# Altium schematic symbol library Connectors Molex.SchLib: 121 symbols (part 1 of 2)
Pins are listed as number, name and electrical type; pins without a type are passive.

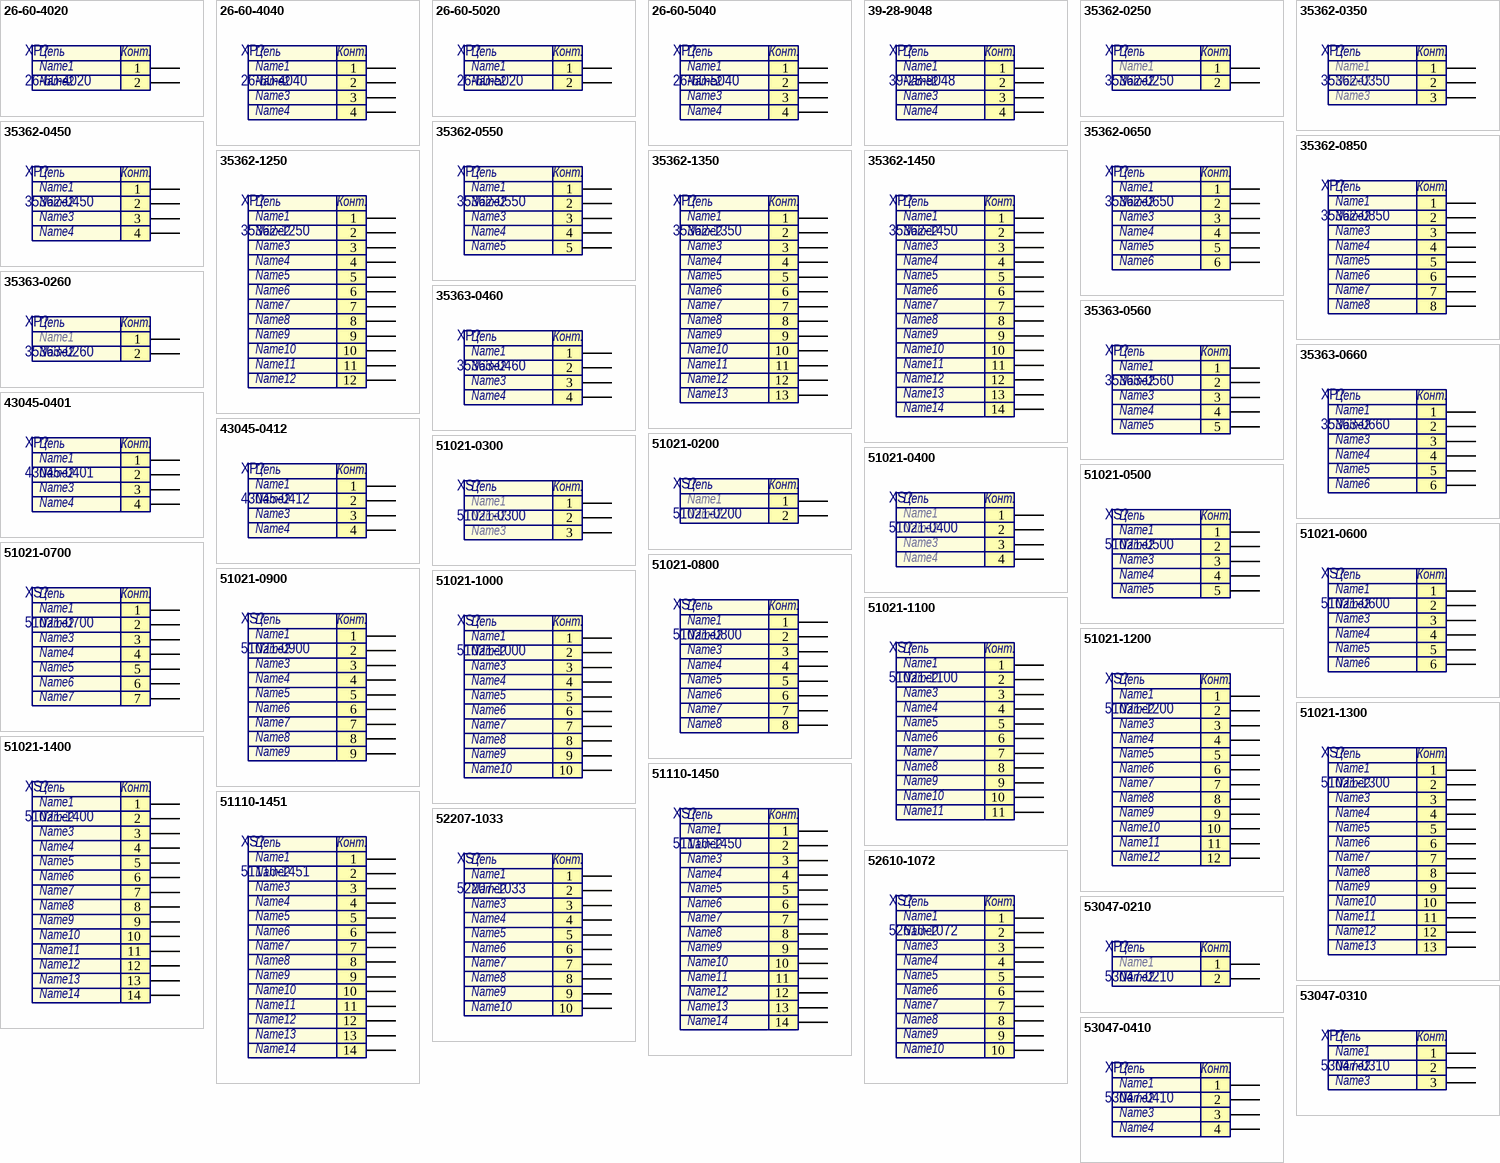
[diagram p0: symbols 26-60-4020 to 53047-0410]

## 26-60-4020
designator XP?  Net_name1: Name1  Net_name2: Name2
CONN HEADER 4POS .156 VERT TIN; Manufacturer: Molex Inc; Library: Connectors Molex; Group: 9375; RegulationProcent: 10; TypeName: Вилка; Distributor: Digi-Key; DistributorPartNumber: WM4620-ND; LatestRevisionDate: 17.01.2018; ManufacturerPartNumber: 26-60-4020; Published: 17.01.2018; Publisher: Stanchik A; Package: *; Code_IPC: *; Code_JEDEC: *
footprint 26-60-4020 (KK® 41791)
pins: 1, 2
text: Цепь; Конт.

## 26-60-4040
designator XP?  Net_name1: Name1  Net_name2: Name2  Net_name3: Name3  Net_name4: Name4
CONN HEADER 4POS .156 VERT TIN; Manufacturer: Molex Inc; Library: Connectors Molex; Group: 9375; RegulationProcent: 10; TypeName: Вилка; Distributor: Digi-Key; DistributorPartNumber: WM4622-ND; LatestRevisionDate: 06.06.2017; ManufacturerPartNumber: 26-60-4040; Published: 06.06.2017; Publisher: Stanchik A; Package: *; Code_IPC: *; Code_JEDEC: *
footprint 26-60-4040 (KK® 41791)
pins: 1, 2, 3, 4
text: Цепь; Конт.

## 26-60-5020
designator XP?  Net_name1: Name1  Net_name2: Name2
CONN HEADER 2POS .156 R/A TIN; Manufacturer: Molex Inc; Library: Connectors Molex; Group: 9375; RegulationProcent: 10; TypeName: Вилка; Distributor: Digi-Key; DistributorPartNumber: WM4640-ND; LatestRevisionDate: 26.02.2018; ManufacturerPartNumber: 26-60-5020; Published: 26.02.2018; Publisher: Stanchik A; Package: *; Code_IPC: *; Code_JEDEC: *
footprint 26-60-5020 (KK® 41792)
pins: 1, 2
text: Цепь; Конт.

## 26-60-5040
designator XP?  Net_name1: Name1  Net_name2: Name2  Net_name3: Name3  Net_name4: Name4
CONN HEADER 4POS .156 R/A TIN; Manufacturer: Molex Inc; Library: Connectors Molex; Group: 9375; RegulationProcent: 10; TypeName: Вилка; Distributor: Digi-Key; DistributorPartNumber: WM4642-ND; LatestRevisionDate: 18.09.2017; ManufacturerPartNumber: 26-60-5040; Published: 18.09.2017; Publisher: Stanchik A; Package: *; Code_IPC: *; Code_JEDEC: *
footprint 26-60-5040 (KK® 41792)
pins: 1, 2, 3, 4
text: Цепь; Конт.

## 39-28-9048
designator XP?  Net_name1: Name1  Net_name2: Name2  Net_name3: Name3  Net_name4: Name4
4 Positions Header, Shrouded Connector 0.165" (4.20mm) Through Hole Gold; Manufacturer: Molex Inc; Library: Connectors Molex; Group: 9375; RegulationProcent: 10; TypeName: Вилка; Distributor: Digi-Key; DistributorPartNumber: WM3833-ND; LatestRevisionDate: 28.04.2016; ManufacturerPartNumber: 39-28-9048; Published: 28.04.2016; Publisher: Stanchik A; Package: *; Code_IPC: *; Code_JEDEC: *
footprint 39-28-9048 (Mini-Fit® Jr™ 5566  For 1.78mm max thick PCB)
pins: 1, 2, 3, 4
text: Цепь; Конт.

## 35362-0250
designator XP?  Net_name1: Name1  Net_name2: Name2
CONN HEADER 2POS 2MM VERT TIN; Manufacturer: Molex Inc; Library: Connectors Molex; Group: 9375; RegulationProcent: 10; TypeName: Вилка; Distributor: Digi-Key; DistributorPartNumber: WM18920-ND; LatestRevisionDate: 08.05.2014; ManufacturerPartNumber: 35362-0250; Published: 08.05.2014; Publisher: Stanchik A; Package: *; Code_IPC: *; Code_JEDEC: *
footprint 35362-0250 (Sherlock™ 35362)
pins: 1, 2
text: Цепь; Конт.

## 35362-0350
designator XP?  Net_name1: Name1  Net_name2: Name2  Net_name3: Name3
CONN HEADER 3POS 2MM VERT TIN; Manufacturer: Molex Inc; Library: Connectors Molex; Group: 9375; RegulationProcent: 10; TypeName: Вилка; Distributor: Digi-Key; DistributorPartNumber: WM18921-ND; LatestRevisionDate: 26.02.2016; ManufacturerPartNumber: 35362-0350; Published: 26.02.2016; Publisher: Stanchik A; Package: *; Code_IPC: *; Code_JEDEC: *
footprint 35362-0350 (Sherlock™ 35362)
pins: 1, 2, 3
text: Цепь; Конт.

## 35362-0450
designator XP?  Net_name1: Name1  Net_name2: Name2  Net_name3: Name3  Net_name4: Name4
CONN HEADER 4POS 2MM VERT TIN; Manufacturer: Molex Inc; Library: Connectors Molex; Group: 9375; RegulationProcent: 10; TypeName: Вилка; Distributor: Digi-Key; DistributorPartNumber: WM18922-ND; LatestRevisionDate: 14.03.2016; ManufacturerPartNumber: 35362-0450; Published: 14.03.2016; Publisher: Stanchik A; Package: *; Code_IPC: *; Code_JEDEC: *
footprint 35362-0450 (Sherlock™ 35362)
pins: 1, 2, 3, 4
text: Цепь; Конт.

## 35362-0550
designator XP?  Net_name1: Name1  Net_name2: Name2  Net_name3: Name3  Net_name4: Name4  Net_name5: Name5
CONN HEADER 5POS 2MM VERT TIN; Manufacturer: Molex Inc; Library: Connectors Molex; Group: 9375; RegulationProcent: 10; TypeName: Вилка; Distributor: Digi-Key; DistributorPartNumber: WM18923-ND; LatestRevisionDate: 28.09.2016; ManufacturerPartNumber: 35362-0550; Published: 28.09.2016; Publisher: Stanchik A; Package: *; Code_IPC: *; Code_JEDEC: *
footprint 35362-0550 (Sherlock™ 35362)
pins: 1, 2, 3, 4, 5
text: Цепь; Конт.

## 35362-0650
designator XP?  Net_name1: Name1  Net_name2: Name2  Net_name3: Name3  Net_name4: Name4  Net_name5: Name5  Net_name6: Name6
CONN HEADER 6POS 2MM VERT TIN; Manufacturer: Molex Inc; Library: Connectors Molex; Group: 9375; RegulationProcent: 10; TypeName: Вилка; Distributor: Digi-Key; DistributorPartNumber: WM18924-ND; LatestRevisionDate: 26.02.2016; ManufacturerPartNumber: 35362-0650; Published: 26.02.2016; Publisher: Stanchik A; Package: *; Code_IPC: *; Code_JEDEC: *
footprint 35362-0650 (Sherlock™ 35362)
pins: 1, 2, 3, 4, 5, 6
text: Цепь; Конт.

## 35362-0850
designator XP?  Net_name1: Name1  Net_name2: Name2  Net_name3: Name3  Net_name4: Name4  Net_name5: Name5  Net_name6: Name6  Net_name7: Name7  Net_name8: Name8
CONN HEADER 8POS 2MM VERT TIN; Manufacturer: Molex Inc; Library: Connectors Molex; Group: 9375; RegulationProcent: 10; TypeName: Вилка; Distributor: Digi-Key; DistributorPartNumber: WM18926-ND; LatestRevisionDate: 14.03.2016; ManufacturerPartNumber: 35362-0850; Published: 14.03.2016; Publisher: Stanchik A; Package: *; Code_IPC: *; Code_JEDEC: *
footprint 35362-0850 (Sherlock™ 35362)
pins: 1, 2, 3, 4, 5, 6, 7, 8
text: Цепь; Конт.

## 35362-1250
designator XP?  Net_name1: Name1  Net_name2: Name2  Net_name3: Name3  Net_name4: Name4  Net_name5: Name5  Net_name6: Name6  Net_name7: Name7  Net_name8: Name8  Net_name9: Name9  Net_name10: Name10  Net_name11: Name11  Net_name12: Name12
CONN HEADER 12POS 2MM VERT TIN; Manufacturer: Molex Inc; Library: Connectors Molex; Group: 9375; RegulationProcent: 10; TypeName: Вилка; Distributor: Digi-Key; DistributorPartNumber: WM18930-ND; LatestRevisionDate: 28.09.2016; ManufacturerPartNumber: 35362-1250; Published: 28.09.2016; Publisher: Stanchik A; Package: *; Code_IPC: *; Code_JEDEC: *
footprint 35362-1250 (Sherlock™ 35362)
pins: 1, 2, 3, 4, 5, 6, 7, 8, 9, 10, 11, 12
text: Цепь; Конт.

## 35362-1350
designator XP?  Net_name1: Name1  Net_name2: Name2  Net_name3: Name3  Net_name4: Name4  Net_name5: Name5  Net_name6: Name6  Net_name7: Name7  Net_name8: Name8  Net_name9: Name9  Net_name10: Name10  Net_name11: Name11  Net_name12: Name12  Net_name13: Name13
CONN HEADER 13POS 2MM VERT TIN; Manufacturer: Molex Inc; Library: Connectors Molex; Group: 9375; RegulationProcent: 10; TypeName: Вилка; Distributor: Digi-Key; DistributorPartNumber: WM9829-ND; LatestRevisionDate: 28.09.2016; ManufacturerPartNumber: 35362-1350; Published: 28.09.2016; Publisher: Stanchik A; Package: *; Code_IPC: *; Code_JEDEC: *
footprint 35362-1350 (Sherlock™ 35362)
pins: 1, 2, 3, 4, 5, 6, 7, 8, 9, 10, 11, 12, 13
text: Цепь; Конт.

## 35362-1450
designator XP?  Net_name1: Name1  Net_name2: Name2  Net_name3: Name3  Net_name4: Name4  Net_name5: Name5  Net_name6: Name6  Net_name7: Name7  Net_name8: Name8  Net_name9: Name9  Net_name10: Name10  Net_name11: Name11  Net_name12: Name12  Net_name13: Name13  Net_name14: Name14
CONN HEADER 14POS 2MM VERT TIN; Manufacturer: Molex Inc; Library: Connectors Molex; Group: 9375; RegulationProcent: 10; TypeName: Вилка; Distributor: Digi-Key; DistributorPartNumber: WM12976-ND; LatestRevisionDate: 28.09.2016; ManufacturerPartNumber: 35362-1450; Published: 28.09.2016; Publisher: Stanchik A; Package: *; Code_IPC: *; Code_JEDEC: *
footprint 35362-1450 (Sherlock™ 35362)
pins: 1, 2, 3, 4, 5, 6, 7, 8, 9, 10, 11, 12, 13, 14
text: Цепь; Конт.

## 35363-0260
designator XP?  Net_name1: Name1  Net_name2: Name2
CONN HEADER 2POS 2MM R/A TIN; Manufacturer: Molex Inc; Library: Connectors Molex; Group: 9375; RegulationProcent: 10; TypeName: Вилка; Distributor: Digi-Key; DistributorPartNumber: WM18931-ND; LatestRevisionDate: 16.02.2016; ManufacturerPartNumber: 35363-0260; Published: 16.02.2016; Publisher: Stanchik A; Package: *; Code_IPC: *; Code_JEDEC: *
footprint 35363-0260 (Sherlock™ 35363)
pins: 1, 2
text: Цепь; Конт.

## 35363-0460
designator XP?  Net_name1: Name1  Net_name2: Name2  Net_name3: Name3  Net_name4: Name4
CONN HEADER 4POS 2MM R/A TIN; Manufacturer: Molex Inc; Library: Connectors Molex; Group: 9375; RegulationProcent: 10; TypeName: Вилка; Distributor: Digi-Key; DistributorPartNumber: WM18933-ND; LatestRevisionDate: 30.03.2016; ManufacturerPartNumber: 35363-0460; Published: 30.03.2016; Publisher: Stanchik A; Package: *; Code_IPC: *; Code_JEDEC: *
footprint 35363-0460 (Sherlock™ 35363)
pins: 1, 2, 3, 4
text: Цепь; Конт.

## 35363-0560
designator XP?  Net_name1: Name1  Net_name2: Name2  Net_name3: Name3  Net_name4: Name4  Net_name5: Name5
CONN HEADER 5POS 2MM R/A TIN; Manufacturer: Molex Inc; Library: Connectors Molex; Group: 9375; RegulationProcent: 10; TypeName: Вилка; Distributor: Digi-Key; DistributorPartNumber: WM18934-ND; LatestRevisionDate: 14.07.2017; ManufacturerPartNumber: 35363-0560; Published: 14.07.2017; Publisher: Stanchik A; Package: *; Code_IPC: *; Code_JEDEC: *
footprint 35363-0560 (Sherlock™ 35363)
pins: 1, 2, 3, 4, 5
text: Цепь; Конт.

## 35363-0660
designator XP?  Net_name1: Name1  Net_name2: Name2  Net_name3: Name3  Net_name4: Name4  Net_name5: Name5  Net_name6: Name6
CONN HEADER 6POS 2MM R/A TIN; Manufacturer: Molex Inc; Library: Connectors Molex; Group: 9375; RegulationProcent: 10; TypeName: Вилка; Distributor: Digi-Key; DistributorPartNumber: WM18935-ND; LatestRevisionDate: 30.03.2016; ManufacturerPartNumber: 35363-0660; Published: 30.03.2016; Publisher: Stanchik A; Package: *; Code_IPC: *; Code_JEDEC: *
footprint 35363-0660 (Sherlock™ 35363)
pins: 1, 2, 3, 4, 5, 6
text: Цепь; Конт.

## 43045-0401
designator XP?  Net_name1: Name1  Net_name2: Name2  Net_name3: Name3  Net_name4: Name4
HEADER R/A 4POS DUAL GOLD T/H; Manufacturer: Molex Inc; Library: Connectors Molex; Group: 9375; RegulationProcent: 10; TypeName: Вилка; Distributor: Digi-Key; DistributorPartNumber: WM3248-ND; LatestRevisionDate: 15.03.2016; ManufacturerPartNumber: 43045-0401; Published: 15.03.2016; Publisher: Stanchik A; Package: *; Code_IPC: *; Code_JEDEC: *
footprint 43045-0401 (Micro-Fit 3.0™ 43045)
pins: 1, 2, 3, 4
text: Цепь; Конт.

## 43045-0412
designator XP?  Net_name1: Name1  Net_name2: Name2  Net_name3: Name3  Net_name4: Name4
CONN HEADER 4POS 3MM VERT TIN; Manufacturer: Molex Inc; Library: Connectors Molex; Group: 9375; RegulationProcent: 10; TypeName: Вилка; Distributor: Digi-Key; DistributorPartNumber: WM1790-ND; LatestRevisionDate: 22.04.2016; ManufacturerPartNumber: 43045-0412; Published: 22.04.2016; Publisher: Stanchik A; Package: *; Code_IPC: *; Code_JEDEC: *
footprint 43045-0412 (Micro-Fit 3.0™ 43045)
pins: 1, 2, 3, 4
text: Цепь; Конт.

## 51021-0200
designator XS?  Net_name1: Name1  Net_name2: Name2
CONN HOUSING 2POS 1.25MM NATURAL; Manufacturer: Molex Inc; Library: Connectors Molex; Group: 9380; RegulationProcent: 10; TypeName: Розетка; Distributor: Digi-Key; DistributorPartNumber: WM1720-ND; LatestRevisionDate: 22.12.2014; ManufacturerPartNumber: 51021-0200; Published: 22.12.2014; Publisher: Konan D; Package: *; Code_IPC: *; Code_JEDEC: *
3D model 510210200 (PCB3D Model)
pins: 1, 2
text: Цепь; Конт.

## 51021-0300
designator XS?  Net_name1: Name1  Net_name2: Name2  Net_name3: Name3
CONN HOUSING 3POS 1.25MM NATURAL; Manufacturer: Molex Inc; Library: Connectors Molex; Group: 9380; RegulationProcent: 10; TypeName: Розетка; Distributor: Digi-Key; DistributorPartNumber: WM1721-ND; LatestRevisionDate: 05.05.13; ManufacturerPartNumber: 51021-0300; Published: 05.06.13; Publisher: Auchinik D; Package: *; Code_IPC: *; Code_JEDEC: *
3D model 510210300 (PCB3D Model)
pins: 1, 2, 3
text: Цепь; Конт.

## 51021-0400
designator XS?  Net_name1: Name1  Net_name2: Name2  Net_name3: Name3  Net_name4: Name4
CONN HOUSING 4POS 1.25MM NATURAL; Manufacturer: Molex Inc; Library: Connectors Molex; Group: 9380; RegulationProcent: 10; TypeName: Розетка; Distributor: Digi-Key; DistributorPartNumber: WM1722-ND; LatestRevisionDate: 05.05.13; ManufacturerPartNumber: 51021-0400; Published: 05.06.13; Publisher: Auchinik D; Package: *; Code_IPC: *; Code_JEDEC: *
3D model 510210400 (PCB3D Model)
pins: 1, 2, 3, 4
text: Цепь; Конт.

## 51021-0500
designator XS?  Net_name1: Name1  Net_name2: Name2  Net_name3: Name3  Net_name4: Name4  Net_name5: Name5
CONN HOUSING 5POS 1.25MM NATURAL; Manufacturer: Molex Inc; Library: Connectors Molex; Group: 9380; RegulationProcent: 10; TypeName: Розетка; Distributor: Digi-Key; DistributorPartNumber: WM1723-ND; LatestRevisionDate: 05.05.13; ManufacturerPartNumber: 51021-0500; Published: 05.06.13; Publisher: Auchinik D; Package: *; Code_IPC: *; Code_JEDEC: *
3D model 510210500 (PCB3D Model)
pins: 1, 2, 3, 4, 5
text: Цепь; Конт.

## 51021-0600
designator XS?  Net_name1: Name1  Net_name2: Name2  Net_name3: Name3  Net_name4: Name4  Net_name5: Name5  Net_name6: Name6
CONN HOUSING 6POS 1.25MM NATURAL; Manufacturer: Molex Inc; Library: Connectors Molex; Group: 9380; RegulationProcent: 10; TypeName: Розетка; Distributor: Digi-Key; DistributorPartNumber: WM1724-ND; LatestRevisionDate: 05.05.13; ManufacturerPartNumber: 51021-0600; Published: 05.06.13; Publisher: Auchinik D; Package: *; Code_IPC: *; Code_JEDEC: *
3D model 510210600 (PCB3D Model)
pins: 1, 2, 3, 4, 5, 6
text: Цепь; Конт.

## 51021-0700
designator XS?  Net_name1: Name1  Net_name2: Name2  Net_name3: Name3  Net_name4: Name4  Net_name5: Name5  Net_name6: Name6  Net_name7: Name7
CONN HOUSING 7POS 1.25MM NATURAL; Manufacturer: Molex Inc; Library: Connectors Molex; Group: 9380; RegulationProcent: 10; TypeName: Розетка; Distributor: Digi-Key; DistributorPartNumber: WM1725-ND; LatestRevisionDate: 05.05.13; ManufacturerPartNumber: 51021-0700; Published: 05.06.13; Publisher: Auchinik D; Package: *; Code_IPC: *; Code_JEDEC: *
3D model 510210700 (PCB3D Model)
pins: 1, 2, 3, 4, 5, 6, 7
text: Цепь; Конт.

## 51021-0800
designator XS?  Net_name1: Name1  Net_name2: Name2  Net_name3: Name3  Net_name4: Name4  Net_name5: Name5  Net_name6: Name6  Net_name7: Name7  Net_name8: Name8
CONN HOUSING 8POS 1.25MM NATURAL; Manufacturer: Molex Inc; Library: Connectors Molex; Group: 9380; RegulationProcent: 10; TypeName: Розетка; Distributor: Digi-Key; DistributorPartNumber: WM1726-ND; LatestRevisionDate: 05.05.13; ManufacturerPartNumber: 51021-0800; Published: 05.06.13; Publisher: Auchinik D; Package: *; Code_IPC: *; Code_JEDEC: *
3D model 510210800 (PCB3D Model)
pins: 1, 2, 3, 4, 5, 6, 7, 8
text: Цепь; Конт.

## 51021-0900
designator XS?  Net_name1: Name1  Net_name2: Name2  Net_name3: Name3  Net_name4: Name4  Net_name5: Name5  Net_name6: Name6  Net_name7: Name7  Net_name8: Name8  Net_name9: Name9
CONN HOUSING 9POS 1.25MM NATURAL; Manufacturer: Molex Inc; Library: Connectors Molex; Group: 9380; RegulationProcent: 10; TypeName: Розетка; Distributor: Digi-Key; DistributorPartNumber: WM1727-ND; LatestRevisionDate: 05.05.13; ManufacturerPartNumber: 51021-0900; Published: 05.06.13; Publisher: Auchinik D; Package: *; Code_IPC: *; Code_JEDEC: *
3D model 510210900 (PCB3D Model)
pins: 1, 2, 3, 4, 5, 6, 7, 8, 9
text: Цепь; Конт.

## 51021-1000
designator XS?  Net_name1: Name1  Net_name2: Name2  Net_name3: Name3  Net_name4: Name4  Net_name5: Name5  Net_name6: Name6  Net_name7: Name7  Net_name8: Name8  Net_name9: Name9  Net_name10: Name10
CONN HOUSING 10POS 1.25MM; Manufacturer: Molex Inc; Library: Connectors Molex; Group: 9380; RegulationProcent: 10; TypeName: Розетка; Distributor: Digi-Key; DistributorPartNumber: WM1728-ND; LatestRevisionDate: 05.05.13; ManufacturerPartNumber: 51021-1000; Published: 05.06.13; Publisher: Auchinik D; Package: *; Code_IPC: *; Code_JEDEC: *
3D model 510211000 (PCB3D Model)
pins: 1, 2, 3, 4, 5, 6, 7, 8, 9, 10
text: Цепь; Конт.

## 51021-1100
designator XS?  Net_name1: Name1  Net_name2: Name2  Net_name3: Name3  Net_name4: Name4  Net_name5: Name5  Net_name6: Name6  Net_name7: Name7  Net_name8: Name8  Net_name9: Name9  Net_name10: Name10  Net_name11: Name11
CONN HOUSING 11POS 1.25MM; Manufacturer: Molex Inc; Library: Connectors Molex; Group: 9380; RegulationProcent: 10; TypeName: Розетка; Distributor: Digi-Key; DistributorPartNumber: WM1729-ND; LatestRevisionDate: 20.12.2014; ManufacturerPartNumber: 51021-1100; Published: 20.12.2014; Publisher: Konan D; Package: *; Code_IPC: *; Code_JEDEC: *
3D model 510211100 (PCB3D Model)
pins: 1, 2, 3, 4, 5, 6, 7, 8, 9, 10, 11
text: Цепь; Конт.

## 51021-1200
designator XS?  Net_name1: Name1  Net_name2: Name2  Net_name3: Name3  Net_name4: Name4  Net_name5: Name5  Net_name6: Name6  Net_name7: Name7  Net_name8: Name8  Net_name9: Name9  Net_name10: Name10  Net_name11: Name11  Net_name12: Name12
CONN HOUSING 12POS 1.25MM; Manufacturer: Molex Inc; Library: Connectors Molex; Group: 9380; RegulationProcent: 10; TypeName: Розетка; Distributor: Digi-Key; DistributorPartNumber: WM1730-ND; LatestRevisionDate: 05.05.13; ManufacturerPartNumber: 51021-1200; Published: 05.06.13; Publisher: Auchinik D; Package: *; Code_IPC: *; Code_JEDEC: *
3D model 510211200 (PCB3D Model)
pins: 1, 2, 3, 4, 5, 6, 7, 8, 9, 10, 11, 12
text: Цепь; Конт.

## 51021-1300
designator XS?  Net_name1: Name1  Net_name2: Name2  Net_name3: Name3  Net_name4: Name4  Net_name5: Name5  Net_name6: Name6  Net_name7: Name7  Net_name8: Name8  Net_name9: Name9  Net_name10: Name10  Net_name11: Name11  Net_name12: Name12  Net_name13: Name13
CONN HOUSING 13POS 1.25MM; Manufacturer: Molex Inc; Library: Connectors Molex; Group: 9380; RegulationProcent: 10; TypeName: Розетка; Distributor: Digi-Key; DistributorPartNumber: WM17000-ND; LatestRevisionDate: 20.12.2014; ManufacturerPartNumber: 51021-1300; Published: 20.12.2014; Publisher: Konan D; Package: *; Code_IPC: *; Code_JEDEC: *
3D model 510211300 (PCB3D Model)
pins: 1, 2, 3, 4, 5, 6, 7, 8, 9, 10, 11, 12, 13
text: Цепь; Конт.

## 51021-1400
designator XS?  Net_name1: Name1  Net_name2: Name2  Net_name3: Name3  Net_name4: Name4  Net_name5: Name5  Net_name6: Name6  Net_name7: Name7  Net_name8: Name8  Net_name9: Name9  Net_name10: Name10  Net_name11: Name11  Net_name12: Name12  Net_name13: Name13  Net_name14: Name14
CONN HOUSING 14POS 1.25MM; Manufacturer: Molex Inc; Library: Connectors Molex; Group: 9380; RegulationProcent: 10; TypeName: Розетка; Distributor: Digi-Key; DistributorPartNumber: WM17001-ND; LatestRevisionDate: 05.05.13; ManufacturerPartNumber: 51021-1400; Published: 05.06.13; Publisher: Auchinik D; Package: *; Code_IPC: *; Code_JEDEC: *
3D model 510211400 (PCB3D Model)
pins: 1, 2, 3, 4, 5, 6, 7, 8, 9, 10, 11, 12, 13, 14
text: Цепь; Конт.

## 51110-1450
designator XS?  Net_name1: Name1  Net_name2: Name2  Net_name3: Name3  Net_name4: Name4  Net_name5: Name5  Net_name6: Name6  Net_name7: Name7  Net_name8: Name8  Net_name9: Name9  Net_name10: Name10  Net_name11: Name11  Net_name12: Name12  Net_name13: Name13  Net_name14: Name14
CONN HOUSING 2MM 14POS; Manufacturer: Molex Inc; Library: Connectors Molex; Group: 9380; RegulationProcent: 10; TypeName: Розетка; Distributor: Digi-Key; DistributorPartNumber: WM18035-ND; LatestRevisionDate: 23.02.2015; ManufacturerPartNumber: 51110-1450; Published: 23.02.2015; Publisher: Stanchik A; Package: *; Code_IPC: *; Code_JEDEC: *
3D model 511101450 (PCB3D Model)
pins: 1, 2, 3, 4, 5, 6, 7, 8, 9, 10, 11, 12, 13, 14
text: Цепь; Конт.

## 51110-1451
designator XS?  Net_name1: Name1  Net_name2: Name2  Net_name3: Name3  Net_name4: Name4  Net_name5: Name5  Net_name6: Name6  Net_name7: Name7  Net_name8: Name8  Net_name9: Name9  Net_name10: Name10  Net_name11: Name11  Net_name12: Name12  Net_name13: Name13  Net_name14: Name14
CONN HOUSING 2MM 14POS POLARIZED; Manufacturer: Molex Inc; Library: Connectors Molex; Group: 9380; RegulationProcent: 10; TypeName: Розетка; Distributor: Digi-Key; DistributorPartNumber: WM18047-ND; LatestRevisionDate: 18.11.2015; ManufacturerPartNumber: 51110-1451; Published: 18.11.2015; Publisher: Stanchik A; Package: *; Code_IPC: *; Code_JEDEC: *
3D model 511101451 (PCB3D Model)
pins: 1, 2, 3, 4, 5, 6, 7, 8, 9, 10, 11, 12, 13, 14
text: Цепь; Конт.

## 52207-1033
designator XS?  Net_name1: Name1  Net_name2: Name2  Net_name3: Name3  Net_name4: Name4  Net_name5: Name5  Net_name6: Name6  Net_name7: Name7  Net_name8: Name8  Net_name9: Name9  Net_name10: Name10
CONN FFC FPC TOP 10POS 1MM R/A; Manufacturer: Molex Inc; Library: Connectors Molex; Group: 9380; RegulationProcent: 10; TypeName: Розетка; Distributor: Digi-Key; DistributorPartNumber: WM10942CT-ND; LatestRevisionDate: 28.02.2018; ManufacturerPartNumber: 52207-1033; Published: 28.02.2018; Publisher: Stanchik A; Package: *; Code_IPC: *; Code_JEDEC: *
footprint 52207-1033 (Easy-On™ 52207)
pins: 1, 2, 3, 4, 5, 6, 7, 8, 9, 10
text: Цепь; Конт.

## 52610-1072
designator XS?  Net_name1: Name1  Net_name2: Name2  Net_name3: Name3  Net_name4: Name4  Net_name5: Name5  Net_name6: Name6  Net_name7: Name7  Net_name8: Name8  Net_name9: Name9  Net_name10: Name10
CONN FPC VERT 10POS 1.00MM SMD; Manufacturer: Molex Inc; Library: Connectors Molex; Group: 9380; RegulationProcent: 10; TypeName: Розетка; Distributor: Digi-Key; DistributorPartNumber: WM6762CT-ND; LatestRevisionDate: 26.02.2018; ManufacturerPartNumber: 52610-1072; Published: 26.02.2018; Publisher: Stanchik A; Package: *; Code_IPC: *; Code_JEDEC: *
footprint 52610-1072 (Easy-On™ 52610)
pins: 1, 2, 3, 4, 5, 6, 7, 8, 9, 10
text: Цепь; Конт.

## 53047-0210
designator XP?  Net_name1: Name1  Net_name2: Name2
CONN HEADER 2POS 1.25MM VERT TIN; Manufacturer: Molex Inc; Library: Connectors Molex; Group: 9375; RegulationProcent: 10; TypeName: Вилка; Distributor: Digi-Key; DistributorPartNumber: WM1731-ND; LatestRevisionDate: 26.05.14; ManufacturerPartNumber: 53047-0210; Published: 26.05.14; Publisher: Auchinik D; Package: *; Code_IPC: *; Code_JEDEC: *
footprint 53047-0210 (PicoBlade™ 53047-0210)
pins: 1, 2
text: Цепь; Конт.

## 53047-0310
designator XP?  Net_name1: Name1  Net_name2: Name2  Net_name3: Name3
CONN HEADER 3POS 1.25MM VERT TIN; Manufacturer: Molex Inc; Library: Connectors Molex; Group: 9375; RegulationProcent: 10; TypeName: Вилка; Distributor: Digi-Key; DistributorPartNumber: WM1732-ND; LatestRevisionDate: 09.01.2015; ManufacturerPartNumber: 53047-0310; Published: 09.01.2015; Publisher: Stanchik A; Package: *; Code_IPC: *; Code_JEDEC: *
footprint 53047-0310 (PicoBlade™ 53047-0310)
pins: 1, 2, 3
text: Цепь; Конт.

## 53047-0410
designator XP?  Net_name1: Name1  Net_name2: Name2  Net_name3: Name3  Net_name4: Name4
CONN HEADER 4POS 1.25MM VERT TIN; Manufacturer: Molex Inc; Library: Connectors Molex; Group: 9375; RegulationProcent: 10; TypeName: Вилка; Distributor: Digi-Key; DistributorPartNumber: WM1733-ND; LatestRevisionDate: 05.08.2014; ManufacturerPartNumber: 53047-0410; Published: 05.08.2014; Publisher: Stanchik A; Package: *; Code_IPC: *; Code_JEDEC: *
footprint 53047-0410 (PicoBlade™ 53047-0410)
pins: 1, 2, 3, 4
text: Цепь; Конт.

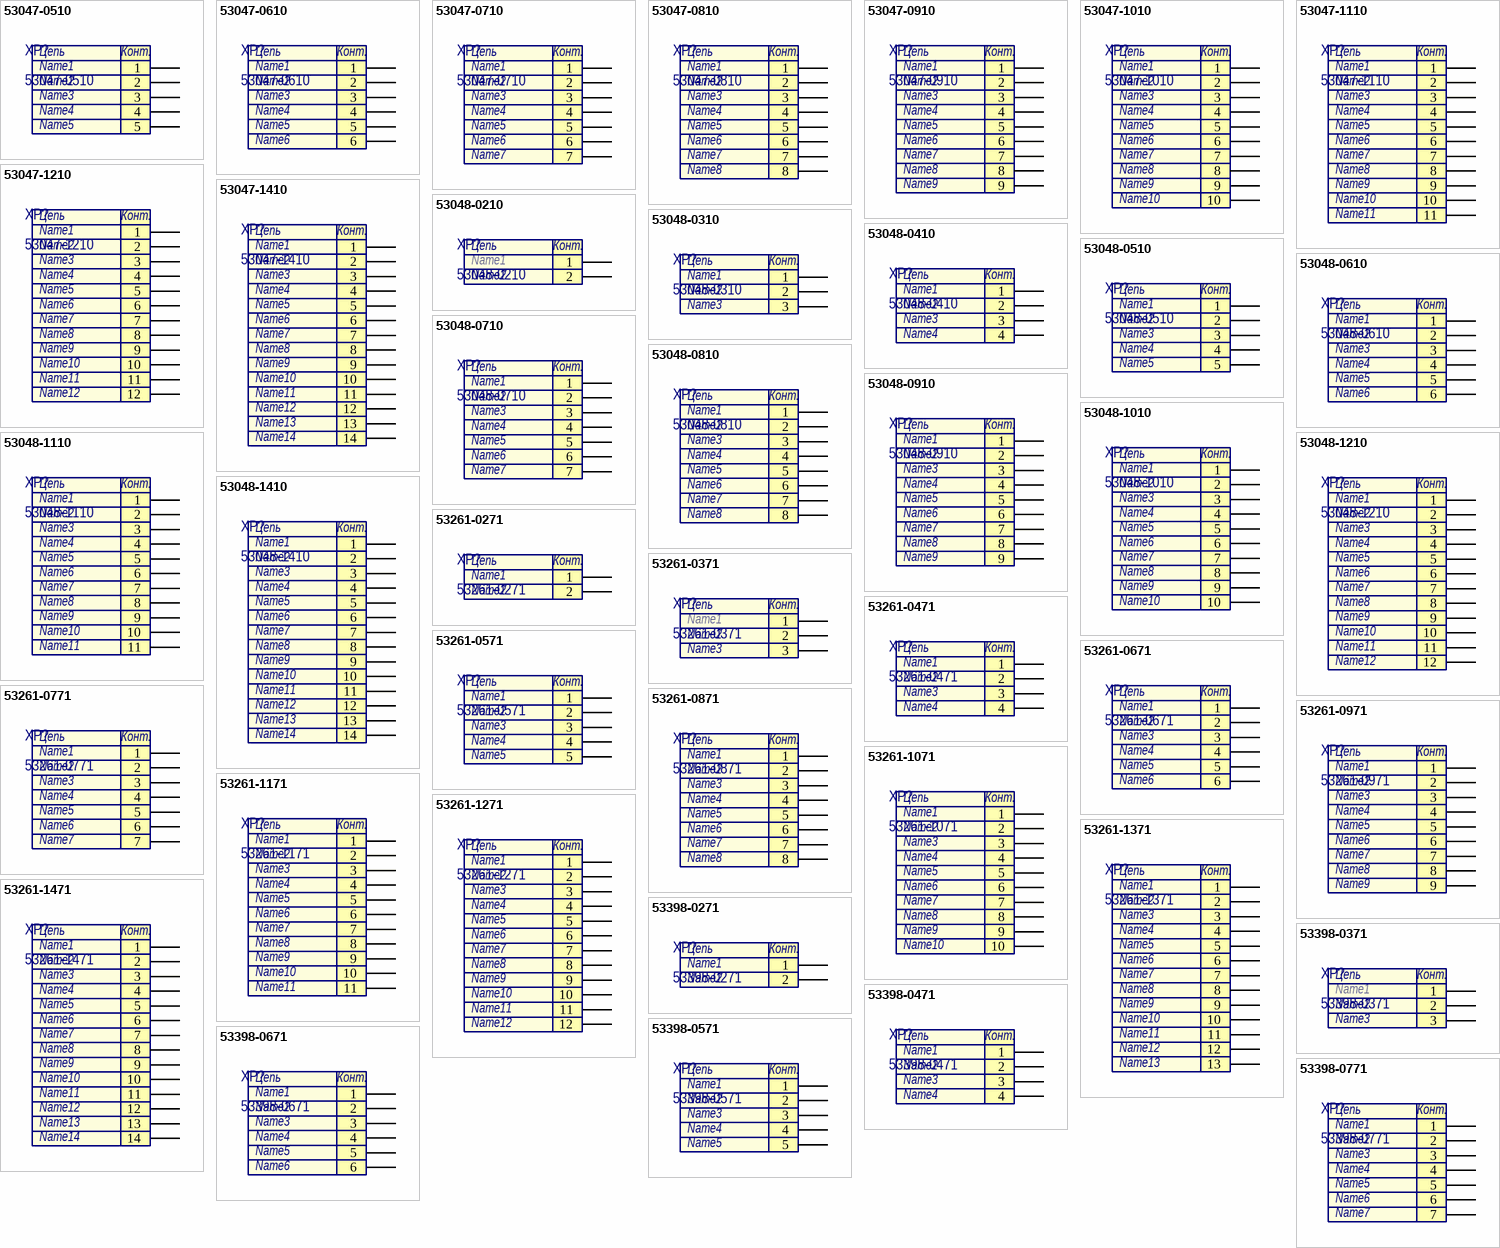
[diagram p1: symbols 53047-0510 to 53398-0771]

## 53047-0510
designator XP?  Net_name1: Name1  Net_name2: Name2  Net_name3: Name3  Net_name4: Name4  Net_name5: Name5
CONN HEADER 5POS 1.25MM VERT TIN; Manufacturer: Molex Inc; Library: Connectors Molex; Group: 9375; RegulationProcent: 10; TypeName: Вилка; Distributor: Digi-Key; DistributorPartNumber: WM1734-ND; LatestRevisionDate: 01.11.13; ManufacturerPartNumber: 53047-0510; Published: 01.11.13; Publisher: Auchinik D; Package: *; Code_IPC: *; Code_JEDEC: *
footprint 53047-0510 (PicoBlade™ 53047-0510)
pins: 1, 2, 3, 4, 5
text: Цепь; Конт.

## 53047-0610
designator XP?  Net_name1: Name1  Net_name2: Name2  Net_name3: Name3  Net_name4: Name4  Net_name5: Name5  Net_name6: Name6
CONN HEADER 6POS 1.25MM VERT TIN; Manufacturer: Molex Inc; Library: Connectors Molex; Group: 9375; RegulationProcent: 10; TypeName: Вилка; Distributor: Digi-Key; DistributorPartNumber: WM1735-ND; LatestRevisionDate: 26.02.2016; ManufacturerPartNumber: 53047-0610; Published: 26.02.2016; Publisher: Stanchik A; Package: *; Code_IPC: *; Code_JEDEC: *
footprint 53047-0610 (PicoBlade™ 53047-0610)
pins: 1, 2, 3, 4, 5, 6
text: Цепь; Конт.

## 53047-0710
designator XP?  Net_name1: Name1  Net_name2: Name2  Net_name3: Name3  Net_name4: Name4  Net_name5: Name5  Net_name6: Name6  Net_name7: Name7
CONN HEADER 7POS 1.25MM VERT TIN; Manufacturer: Molex Inc; Library: Connectors Molex; Group: 9375; RegulationProcent: 10; TypeName: Вилка; Distributor: Digi-Key; DistributorPartNumber: WM1736-ND; LatestRevisionDate: 24.02.2015; ManufacturerPartNumber: 53047-0710; Published: 24.02.2015; Publisher: Stanchik A; Package: *; Code_IPC: *; Code_JEDEC: *
footprint 53047-0710 (PicoBlade™ 53047-0710)
pins: 1, 2, 3, 4, 5, 6, 7
text: Цепь; Конт.

## 53047-0810
designator XP?  Net_name1: Name1  Net_name2: Name2  Net_name3: Name3  Net_name4: Name4  Net_name5: Name5  Net_name6: Name6  Net_name7: Name7  Net_name8: Name8
CONN HEADER 8POS 1.25MM VERT SMD; Manufacturer: Molex Inc; Library: Connectors Molex; Group: 9375; RegulationProcent: 10; TypeName: Вилка; Distributor: Digi-Key; DistributorPartNumber: WM1737-ND; LatestRevisionDate: 05.08.2014; ManufacturerPartNumber: 53047-0810; Published: 05.08.2014; Publisher: Stanchik A; Package: *; Code_IPC: *; Code_JEDEC: *
footprint 53047-0810 (PicoBlade™ 53047-0810)
pins: 1, 2, 3, 4, 5, 6, 7, 8
text: Цепь; Конт.

## 53047-0910
designator XP?  Net_name1: Name1  Net_name2: Name2  Net_name3: Name3  Net_name4: Name4  Net_name5: Name5  Net_name6: Name6  Net_name7: Name7  Net_name8: Name8  Net_name9: Name9
CONN HEADER 9POS 1.25MM VERT TIN; Manufacturer: Molex Inc; Library: Connectors Molex; Group: 9375; RegulationProcent: 10; TypeName: Вилка; Distributor: Digi-Key; DistributorPartNumber: WM1738-ND; LatestRevisionDate: 09.01.2015; ManufacturerPartNumber: 53047-0910; Published: 09.01.2015; Publisher: Stanchik A; Package: *; Code_IPC: *; Code_JEDEC: *
footprint 53047-0910 (PicoBlade™ 53047-0910)
pins: 1, 2, 3, 4, 5, 6, 7, 8, 9
text: Цепь; Конт.

## 53047-1010
designator XP?  Net_name1: Name1  Net_name2: Name2  Net_name3: Name3  Net_name4: Name4  Net_name5: Name5  Net_name6: Name6  Net_name7: Name7  Net_name8: Name8  Net_name9: Name9  Net_name10: Name10
CONN HEADER 10POS 1.25MM STR TIN; Manufacturer: Molex Inc; Library: Connectors Molex; Group: 9375; RegulationProcent: 10; TypeName: Вилка; Distributor: Digi-Key; DistributorPartNumber: WM1739-ND; LatestRevisionDate: 17.02.2015; ManufacturerPartNumber: 53047-1010; Published: 17.02.2015; Publisher: Stanchik A; Package: *; Code_IPC: *; Code_JEDEC: *
footprint 53047-1010 (PicoBlade™ 53047-1010)
pins: 1, 2, 3, 4, 5, 6, 7, 8, 9, 10
text: Цепь; Конт.

## 53047-1110
designator XP?  Net_name1: Name1  Net_name2: Name2  Net_name3: Name3  Net_name4: Name4  Net_name5: Name5  Net_name6: Name6  Net_name7: Name7  Net_name8: Name8  Net_name9: Name9  Net_name10: Name10  Net_name11: Name11
CONN HEADER 11POS 1.25MM STR TIN; Manufacturer: Molex Inc; Library: Connectors Molex; Group: 9375; RegulationProcent: 10; TypeName: Вилка; Distributor: Digi-Key; DistributorPartNumber: WM1740-ND; LatestRevisionDate: 15.07.2015; ManufacturerPartNumber: 53047-1110; Published: 15.07.2015; Publisher: Stanchik A; Package: *; Code_IPC: *; Code_JEDEC: *
footprint 53047-1110 (PicoBlade™ 53047-1110)
pins: 1, 2, 3, 4, 5, 6, 7, 8, 9, 10, 11
text: Цепь; Конт.

## 53047-1210
designator XP?  Net_name1: Name1  Net_name2: Name2  Net_name3: Name3  Net_name4: Name4  Net_name5: Name5  Net_name6: Name6  Net_name7: Name7  Net_name8: Name8  Net_name9: Name9  Net_name10: Name10  Net_name11: Name11  Net_name12: Name12
CONN HEADER 12POS 1.25MM STR TIN; Manufacturer: Molex Inc; Library: Connectors Molex; Group: 9375; RegulationProcent: 10; TypeName: Вилка; Distributor: Digi-Key; DistributorPartNumber: WM1741-ND; LatestRevisionDate: 15.07.2015; ManufacturerPartNumber: 53047-1210; Published: 15.07.2015; Publisher: Stanchik A; Package: *; Code_IPC: *; Code_JEDEC: *
footprint 53047-1210 (PicoBlade™ 53047-1210)
pins: 1, 2, 3, 4, 5, 6, 7, 8, 9, 10, 11, 12
text: Цепь; Конт.

## 53047-1410
designator XP?  Net_name1: Name1  Net_name2: Name2  Net_name3: Name3  Net_name4: Name4  Net_name5: Name5  Net_name6: Name6  Net_name7: Name7  Net_name8: Name8  Net_name9: Name9  Net_name10: Name10  Net_name11: Name11  Net_name12: Name12  Net_name13: Name13  Net_name14: Name14
CONN HEADER 14POS 1.25MM STR TIN; Manufacturer: Molex Inc; Library: Connectors Molex; Group: 9375; RegulationProcent: 10; TypeName: Вилка; Distributor: Digi-Key; DistributorPartNumber: WM17004-ND; LatestRevisionDate: 07.06.2017; ManufacturerPartNumber: 53047-1410; Published: 07.06.2017; Publisher: Stanchik A; Package: *; Code_IPC: *; Code_JEDEC: *
footprint 53047-1410 (PicoBlade™ 53047)
pins: 1, 2, 3, 4, 5, 6, 7, 8, 9, 10, 11, 12, 13, 14
text: Цепь; Конт.

## 53048-0210
designator XP?  Net_name1: Name1  Net_name2: Name2
CONN HEADER 2POS 1.25MM R/A TIN; Manufacturer: Molex Inc; Library: Connectors Molex; Group: 9375; RegulationProcent: 10; TypeName: Вилка; Distributor: Digi-Key; DistributorPartNumber: WM1742-ND; LatestRevisionDate: 16.01.2015; ManufacturerPartNumber: 53048-0210; Published: 16.01.2015; Publisher: Stanchik A; Package: *
footprint 53048-0210 (PicoBlade™ 53048-0210)
pins: 1, 2
text: Цепь; Конт.

## 53048-0310
designator XP?  Net_name1: Name1  Net_name2: Name2  Net_name3: Name3
CONN HEADER 3POS 1.25MM R/A TIN; Manufacturer: Molex Inc; Library: Connectors Molex; Group: 9375; RegulationProcent: 10; TypeName: Вилка; Distributor: Digi-Key; DistributorPartNumber: WM1743-ND; LatestRevisionDate: 30.03.2016; ManufacturerPartNumber: 53048-0310; Published: 30.03.2016; Publisher: Stanchik A; Package: *; Code_IPC: *; Code_JEDEC: *
footprint 53048-0310 (PicoBlade™ 53048-0310)
pins: 1, 2, 3
text: Цепь; Конт.

## 53048-0410
designator XP?  Net_name1: Name1  Net_name2: Name2  Net_name3: Name3  Net_name4: Name4
CONN HEADER 4POS 1.25MM R/A TIN; Manufacturer: Molex Inc; Library: Connectors Molex; Group: 9375; RegulationProcent: 10; TypeName: Вилка; Distributor: Digi-Key; DistributorPartNumber: WM1744-ND; LatestRevisionDate: 18.03.2015; ManufacturerPartNumber: 53048-0410; Published: 18.03.2015; Publisher: Stanchik A; Package: *; Code_IPC: *; Code_JEDEC: *
footprint 53048-0410 (PicoBlade™ 53048-0410)
pins: 1, 2, 3, 4
text: Цепь; Конт.

## 53048-0510
designator XP?  Net_name1: Name1  Net_name2: Name2  Net_name3: Name3  Net_name4: Name4  Net_name5: Name5
CONN HEADER 5POS 1.25MM R/A TIN; Manufacturer: Molex Inc; Library: Connectors Molex; Group: 9375; RegulationProcent: 10; TypeName: Вилка; Distributor: Digi-Key; DistributorPartNumber: WM1745-ND; LatestRevisionDate: 09.03.2015; ManufacturerPartNumber: 53048-0510; Published: 09.03.2015; Publisher: Stanchik A; Package: *; Code_IPC: *; Code_JEDEC: *
footprint 53048-0510 (PicoBlade™ 53048-0510)
pins: 1, 2, 3, 4, 5
text: Цепь; Конт.

## 53048-0610
designator XP?  Net_name1: Name1  Net_name2: Name2  Net_name3: Name3  Net_name4: Name4  Net_name5: Name5  Net_name6: Name6
CONN HEADER 6POS 1.25MM R/A TIN; Manufacturer: Molex Inc; Library: Connectors Molex; Group: 9375; RegulationProcent: 10; TypeName: Вилка; Distributor: Digi-Key; DistributorPartNumber: WM1746-ND; LatestRevisionDate: 02.06.2015; ManufacturerPartNumber: 53048-0610; Published: 05.03.2015; Publisher: Stanchik A; Package: *; Code_IPC: *; Code_JEDEC: *
footprint 53048-0610 (PicoBlade™ 53048-0610)
pins: 1, 2, 3, 4, 5, 6
text: Цепь; Конт.

## 53048-0710
designator XP?  Net_name1: Name1  Net_name2: Name2  Net_name3: Name3  Net_name4: Name4  Net_name5: Name5  Net_name6: Name6  Net_name7: Name7
CONN HEADER 7POS 1.25MM R/A TIN; Manufacturer: Molex Inc; Library: Connectors Molex; Group: 9375; RegulationProcent: 10; TypeName: Вилка; Distributor: Digi-Key; DistributorPartNumber: WM1747-ND; LatestRevisionDate: 05.03.2015; ManufacturerPartNumber: 53048-0710; Published: 05.03.2015; Publisher: Stanchik A; Package: *; Code_IPC: *; Code_JEDEC: *
footprint 53048-0710 (PicoBlade™ 53048-0710)
pins: 1, 2, 3, 4, 5, 6, 7
text: Цепь; Конт.

## 53048-0810
designator XP?  Net_name1: Name1  Net_name2: Name2  Net_name3: Name3  Net_name4: Name4  Net_name5: Name5  Net_name6: Name6  Net_name7: Name7  Net_name8: Name8
CONN HEADER 8POS 1.25MM R/A TIN; Manufacturer: Molex Inc; Library: Connectors Molex; Group: 9375; RegulationProcent: 10; TypeName: Вилка; Distributor: Digi-Key; DistributorPartNumber: WM1748-ND; LatestRevisionDate: 02.07.2015; ManufacturerPartNumber: 53048-0810; Published: 02.07.2015; Publisher: Stanchik A; Package: *; Code_IPC: *; Code_JEDEC: *
footprint 53048-0810 (PicoBlade™ 53048-0810)
pins: 1, 2, 3, 4, 5, 6, 7, 8
text: Цепь; Конт.

## 53048-0910
designator XP?  Net_name1: Name1  Net_name2: Name2  Net_name3: Name3  Net_name4: Name4  Net_name5: Name5  Net_name6: Name6  Net_name7: Name7  Net_name8: Name8  Net_name9: Name9
CONN HEADER 9POS 1.25MM R/A TIN; Manufacturer: Molex Inc; Library: Connectors Molex; Group: 9375; RegulationProcent: 10; TypeName: Вилка; Distributor: Digi-Key; DistributorPartNumber: WM1749-ND; LatestRevisionDate: 15.07.2015; ManufacturerPartNumber: 53048-0910; Published: 15.07.2015; Publisher: Stanchik A; Package: *; Code_IPC: *; Code_JEDEC: *
footprint 53048-0910 (PicoBlade™ 53048-0910)
pins: 1, 2, 3, 4, 5, 6, 7, 8, 9
text: Цепь; Конт.

## 53048-1010
designator XP?  Net_name1: Name1  Net_name2: Name2  Net_name3: Name3  Net_name4: Name4  Net_name5: Name5  Net_name6: Name6  Net_name7: Name7  Net_name8: Name8  Net_name9: Name9  Net_name10: Name10
CONN HEADER 10POS 1.25MM R/A TIN; Manufacturer: Molex Inc; Library: Connectors Molex; Group: 9375; RegulationProcent: 10; TypeName: Вилка; Distributor: Digi-Key; DistributorPartNumber: WM1750-ND; LatestRevisionDate: 09.07.2015; ManufacturerPartNumber: 53048-1010; Published: 09.07.2015; Publisher: Stanchik A; Package: *; Code_IPC: *; Code_JEDEC: *
footprint 53048-1010 (PicoBlade™ 53048-1010)
pins: 1, 2, 3, 4, 5, 6, 7, 8, 9, 10
text: Цепь; Конт.

## 53048-1110
designator XP?  Net_name1: Name1  Net_name2: Name2  Net_name3: Name3  Net_name4: Name4  Net_name5: Name5  Net_name6: Name6  Net_name7: Name7  Net_name8: Name8  Net_name9: Name9  Net_name10: Name10  Net_name11: Name11
CONN HEADER 11POS 1.25MM R/A TIN; Manufacturer: Molex Inc; Library: Connectors Molex; Group: 9375; RegulationProcent: 10; TypeName: Вилка; Distributor: Digi-Key; DistributorPartNumber: WM1751-ND; LatestRevisionDate: 15.07.2015; ManufacturerPartNumber: 53048-1110; Published: 15.07.2015; Publisher: Stanchik A; Package: *; Code_IPC: *; Code_JEDEC: *
footprint 53048-1110 (PicoBlade™ 53048-1110)
pins: 1, 2, 3, 4, 5, 6, 7, 8, 9, 10, 11
text: Цепь; Конт.

## 53048-1210
designator XP?  Net_name1: Name1  Net_name2: Name2  Net_name3: Name3  Net_name4: Name4  Net_name5: Name5  Net_name6: Name6  Net_name7: Name7  Net_name8: Name8  Net_name9: Name9  Net_name10: Name10  Net_name11: Name11  Net_name12: Name12
CONN HEADER 12POS 1.25MM R/A TIN; Manufacturer: Molex Inc; Library: Connectors Molex; Group: 9375; RegulationProcent: 10; TypeName: Вилка; Distributor: Digi-Key; DistributorPartNumber: WM1752-ND; LatestRevisionDate: 15.07.2015; ManufacturerPartNumber: 53048-1210; Published: 15.07.2015; Publisher: Stanchik A; Package: *; Code_IPC: *; Code_JEDEC: *
footprint 53048-1210 (PicoBlade™ 53048-1210)
pins: 1, 2, 3, 4, 5, 6, 7, 8, 9, 10, 11, 12
text: Цепь; Конт.

## 53048-1410
designator XP?  Net_name1: Name1  Net_name2: Name2  Net_name3: Name3  Net_name4: Name4  Net_name5: Name5  Net_name6: Name6  Net_name7: Name7  Net_name8: Name8  Net_name9: Name9  Net_name10: Name10  Net_name11: Name11  Net_name12: Name12  Net_name13: Name13  Net_name14: Name14
CONN HEADER 14POS 1.25MM R/A TIN; Manufacturer: Molex Inc; Library: Connectors Molex; Group: 9375; RegulationProcent: 10; TypeName: Вилка; Distributor: Digi-Key; DistributorPartNumber: WM17007-ND; LatestRevisionDate: 07.06.2017; ManufacturerPartNumber: 53048-1410; Published: 07.06.2017; Publisher: Stanchik A; Package: *; Code_IPC: *; Code_JEDEC: *
footprint 53048-1410 (PicoBlade™ 53048)
pins: 1, 2, 3, 4, 5, 6, 7, 8, 9, 10, 11, 12, 13, 14
text: Цепь; Конт.

## 53261-0271
designator XP?  Net_name1: Name1  Net_name2: Name2
CONN HEADER 2POS 1.25MM R/A SMD; Manufacturer: Molex Inc; Library: Connectors Molex; Group: 9375; RegulationProcent: 10; TypeName: Вилка; Distributor: DigiKey; DistributorPartNumber: WM7620CT-ND; LatestRevisionDate: 23.02.2015; ManufacturerPartNumber: 53261-0271; Published: 23.02.2015; Publisher: Stanchik A; Package: *; Code_IPC: *; Code_JEDEC: *
footprint 53261-0271 (PicoBlade™ 53261-0271)
pins: 1, 2
text: Цепь; Конт.

## 53261-0371
designator XP?  Net_name1: Name1  Net_name2: Name2  Net_name3: Name3
CONN HEADER 3POS 1.25MM R/A SMD; Manufacturer: Molex Inc; Library: Connectors Molex; Group: 9375; RegulationProcent: 10; TypeName: Вилка; Distributor: Digi-Key; DistributorPartNumber: WM7621CT-ND; LatestRevisionDate: 23.02.2015; ManufacturerPartNumber: 53261-0371; Published: 23.02.2015; Publisher: Stanchik A; Package: *; Code_IPC: *; Code_JEDEC: *
footprint 53261-0371 (PicoBlade™ 553261-0371)
pins: 1, 2, 3
text: Цепь; Конт.

## 53261-0471
designator XP?  Net_name1: Name1  Net_name2: Name2  Net_name3: Name3  Net_name4: Name4
CONN HEADER 4POS 1.25MM R/A SMD; Manufacturer: Molex Inc; Library: Connectors Molex; Group: 9375; RegulationProcent: 10; TypeName: Вилка; Distributor: Digi-Key; DistributorPartNumber: WM7622CT-ND; LatestRevisionDate: 23.02.2015; ManufacturerPartNumber: 53261-0471; Published: 23.02.2015; Publisher: Stanchik A; Package: *; Code_IPC: *; Code_JEDEC: *
footprint 53261-0471 (PicoBlade™ 53261-0471)
pins: 1, 2, 3, 4
text: Цепь; Конт.

## 53261-0571
designator XP?  Net_name1: Name1  Net_name2: Name2  Net_name3: Name3  Net_name4: Name4  Net_name5: Name5
CONN HEADER 5POS 1.25MM R/A SMD; Manufacturer: Molex Inc; Library: Connectors Molex; Group: 9375; RegulationProcent: 10; TypeName: Вилка; Distributor: Digi-Key; DistributorPartNumber: WM7623CT-ND; LatestRevisionDate: 30.10.13; ManufacturerPartNumber: 53261-0571; Published: 30.10.13; Publisher: Auchinik D; Package: *; Code_IPC: *; Code_JEDEC: *
footprint 53261-0571 (PicoBlade™ 53261-0571)
pins: 1, 2, 3, 4, 5
text: Цепь; Конт.

## 53261-0671
designator XP?  Net_name1: Name1  Net_name2: Name2  Net_name3: Name3  Net_name4: Name4  Net_name5: Name5  Net_name6: Name6
CONN HEADER 6POS 1.25MM R/A SMD; Manufacturer: Molex Inc; Library: Connectors Molex; Group: 9375; RegulationProcent: 10; TypeName: Вилка; Distributor: Digi-Key; DistributorPartNumber: WM7624CT-ND; LatestRevisionDate: 23.02.2015; ManufacturerPartNumber: 53261-0671; Published: 23.02.2015; Publisher: Auchinik D; Package: *; Code_IPC: *; Code_JEDEC: *
footprint 53261-0671 (PicoBlade™ 53261-0671)
pins: 1, 2, 3, 4, 5, 6
text: Цепь; Конт.

## 53261-0771
designator XP?  Net_name1: Name1  Net_name2: Name2  Net_name3: Name3  Net_name4: Name4  Net_name5: Name5  Net_name6: Name6  Net_name7: Name7
CONN HEADER 7POS 1.25MM R/A SMD; Manufacturer: Molex Inc; Library: Connectors Molex; Group: 9375; RegulationProcent: 10; TypeName: Вилка; Distributor: Digi-Key; DistributorPartNumber: WM7625CT-ND; LatestRevisionDate: 23.02.2015; ManufacturerPartNumber: 53261-0771; Published: 23.02.2015; Publisher: Stanchik A; Package: *; Code_IPC: *; Code_JEDEC: *
footprint 53261-0771 (PicoBlade™ 53261-0771)
pins: 1, 2, 3, 4, 5, 6, 7
text: Цепь; Конт.

## 53261-0871
designator XP?  Net_name1: Name1  Net_name2: Name2  Net_name3: Name3  Net_name4: Name4  Net_name5: Name5  Net_name6: Name6  Net_name7: Name7  Net_name8: Name8
CONN HEADER 8POS 1.25MM R/A SMD; Manufacturer: Molex Inc; Library: Connectors Molex; Group: 9375; RegulationProcent: 10; TypeName: Вилка; Distributor: Digi-Key; DistributorPartNumber: WM7626CT-ND; LatestRevisionDate: 23.02.2015; ManufacturerPartNumber: 53261-0871; Published: 23.02.2015; Publisher: Stanchik A; Package: *; Code_IPC: *; Code_JEDEC: *
footprint 53261-0871 (PicoBlade™ 53261-0871)
pins: 1, 2, 3, 4, 5, 6, 7, 8
text: Цепь; Конт.

## 53261-0971
designator XP?  Net_name1: Name1  Net_name2: Name2  Net_name3: Name3  Net_name4: Name4  Net_name5: Name5  Net_name6: Name6  Net_name7: Name7  Net_name8: Name8  Net_name9: Name9
CONN HEADER 9POS 1.25MM R/A SMD; Manufacturer: Molex Inc; Library: Connectors Molex; Group: 9375; RegulationProcent: 10; TypeName: Вилка; Distributor: Digi-Key; DistributorPartNumber: WM7627CT-ND; LatestRevisionDate: 23.02.2015; ManufacturerPartNumber: 53261-0971; Published: 23.02.2015; Publisher: Stanchik A; Package: *; Code_IPC: *; Code_JEDEC: *
footprint 53261-0971 (PicoBlade™ 53261-0971)
pins: 1, 2, 3, 4, 5, 6, 7, 8, 9
text: Цепь; Конт.

## 53261-1071
designator XP?  Net_name1: Name1  Net_name2: Name2  Net_name3: Name3  Net_name4: Name4  Net_name5: Name5  Net_name6: Name6  Net_name7: Name7  Net_name8: Name8  Net_name9: Name9  Net_name10: Name10
CONN HEADER 10POS 1.25MM R/A SMD; Manufacturer: Molex Inc; Library: Connectors Molex; Group: 9375; RegulationProcent: 10; TypeName: Вилка; Distributor: Digi-Key; DistributorPartNumber: WM7628CT-ND; LatestRevisionDate: 23.02.2015; ManufacturerPartNumber: 53261-1071; Published: 23.02.2015; Publisher: Stanchik A; Package: *; Code_IPC: *; Code_JEDEC: *
footprint 53261-1071 (PicoBlade™ 53261-1071)
pins: 1, 2, 3, 4, 5, 6, 7, 8, 9, 10
text: Цепь; Конт.

## 53261-1171
designator XP?  Net_name1: Name1  Net_name2: Name2  Net_name3: Name3  Net_name4: Name4  Net_name5: Name5  Net_name6: Name6  Net_name7: Name7  Net_name8: Name8  Net_name9: Name9  Net_name10: Name10  Net_name11: Name11
CONN HEADER 11POS 1.25MM VERT SMD; Manufacturer: Molex Inc; Library: Connectors Molex; Group: 9375; RegulationProcent: 10; TypeName: Вилка; Distributor: Digi-Key; DistributorPartNumber: WM7629CT-ND; LatestRevisionDate: 23.02.2015; ManufacturerPartNumber: 53261-1171; Published: 23.02.2015; Publisher: Stanchik A; Package: *; Code_IPC: *; Code_JEDEC: *
footprint 53261-1171 (PicoBlade™ 53261-1171)
pins: 1, 2, 3, 4, 5, 6, 7, 8, 9, 10, 11
text: Цепь; Конт.

## 53261-1271
designator XP?  Net_name1: Name1  Net_name2: Name2  Net_name3: Name3  Net_name4: Name4  Net_name5: Name5  Net_name6: Name6  Net_name7: Name7  Net_name8: Name8  Net_name9: Name9  Net_name10: Name10  Net_name11: Name11  Net_name12: Name12
CONN HEADER 12POS 1.25MM R/A SMD; Manufacturer: Molex Inc; Library: Connectors Molex; Group: 9375; RegulationProcent: 10; TypeName: Вилка; Distributor: Digi-Key; DistributorPartNumber: WM7630CT-ND; LatestRevisionDate: 23.02.2015; ManufacturerPartNumber: 53261-1271; Published: 23.02.2015; Publisher: Stanchik A; Package: *; Code_IPC: *; Code_JEDEC: *
footprint 53261-1271 (PicoBlade™ 53261-1271)
pins: 1, 2, 3, 4, 5, 6, 7, 8, 9, 10, 11, 12
text: Цепь; Конт.

## 53261-1371
designator XP?  Net_name1: Name1  Net_name2: Name2  Net_name3: Name3  Net_name4: Name4  Net_name5: Name5  Net_name6: Name6  Net_name7: Name7  Net_name8: Name8  Net_name9: Name9  Net_name10: Name10  Net_name11: Name11  Net_name12: Name12  Net_name13: Name13
CONN HEADER 13POS 1.25MM R/A SMD; Manufacturer: Molex Inc; Library: Connectors Molex; Group: 9375; RegulationProcent: 10; TypeName: Вилка; Distributor: Digi-Key; DistributorPartNumber: 0532611371-ND; LatestRevisionDate: 23.02.2015; ManufacturerPartNumber: 53261-1371; Published: 23.02.2015; Publisher: Stanchik A; Package: *; Code_IPC: *; Code_JEDEC: *
footprint 53261-1371 (PicoBlade™ 53261-1371)
pins: 1, 2, 3, 4, 5, 6, 7, 8, 9, 10, 11, 12, 13
text: Цепь; Конт.

## 53261-1471
designator XP?  Net_name1: Name1  Net_name2: Name2  Net_name3: Name3  Net_name4: Name4  Net_name5: Name5  Net_name6: Name6  Net_name7: Name7  Net_name8: Name8  Net_name9: Name9  Net_name10: Name10  Net_name11: Name11  Net_name12: Name12  Net_name13: Name13  Net_name14: Name14
CONN HEADER 14POS 1.25MM R/A SMD; Manufacturer: Molex Inc; Library: Connectors Molex; Group: 9375; RegulationProcent: 10; TypeName: Вилка; Distributor: Digi-Key; DistributorPartNumber: WM7631CT-ND; LatestRevisionDate: 23.02.2015; ManufacturerPartNumber: 53261-1471; Published: 23.02.2015; Publisher: Stanchik A; Package: *; Code_IPC: *; Code_JEDEC: *
footprint 53261-1471 (PicoBlade™ 53261-1471)
pins: 1, 2, 3, 4, 5, 6, 7, 8, 9, 10, 11, 12, 13, 14
text: Цепь; Конт.

## 53398-0271
designator XP?  Net_name1: Name1  Net_name2: Name2
CONN HEADER 2POS 1.25MM VERT SMD; Manufacturer: Molex Inc; Library: Connectors Molex; Group: 9375; RegulationProcent: 10; TypeName: Вилка; Distributor: DigiKey; DistributorPartNumber: WM7606CT-ND; LatestRevisionDate: 09.01.2015; ManufacturerPartNumber: 53398-0271; Published: 09.01.2015; Publisher: Stanchik A; Package: *; Code_IPC: *; Code_JEDEC: *
footprint 53398-0271 (PicoBlade™ 53398-0271)
pins: 1, 2
text: Цепь; Конт.

## 53398-0371
designator XP?  Net_name1: Name1  Net_name2: Name2  Net_name3: Name3
CONN HEADER 3POS 1.25MM VERT SMD; Manufacturer: Molex Inc; Library: Connectors Molex; Group: 9375; RegulationProcent: 10; TypeName: Вилка; Distributor: Digi-Key; DistributorPartNumber: WM7607CT-ND; LatestRevisionDate: 08.07.13; ManufacturerPartNumber: 53398-0371; Published: 05.06.13; Publisher: Auchinik D; Package: *; Code_IPC: *; Code_JEDEC: *
footprint 53398-0371 (PicoBlade™ 53398-0371)
pins: 1, 2, 3
text: Цепь; Конт.

## 53398-0471
designator XP?  Net_name1: Name1  Net_name2: Name2  Net_name3: Name3  Net_name4: Name4
CONN HEADER 4POS 1.25MM VERT SMD; Manufacturer: Molex Inc; Library: Connectors Molex; Group: 9375; RegulationProcent: 10; TypeName: Вилка; Distributor: Digi-Key; DistributorPartNumber: WM7608CT-ND; LatestRevisionDate: 08.07.13; ManufacturerPartNumber: 53398-0471; Published: 05.06.13; Publisher: Auchinik D; Package: *; Code_IPC: *; Code_JEDEC: *
footprint 53398-0471 (PicoBlade™ 553398-0471)
pins: 1, 2, 3, 4
text: Цепь; Конт.

## 53398-0571
designator XP?  Net_name1: Name1  Net_name2: Name2  Net_name3: Name3  Net_name4: Name4  Net_name5: Name5
CONN HEADER 5POS 1.25MM VERT SMD; Manufacturer: Molex Inc; Library: Connectors Molex; Group: 9375; RegulationProcent: 10; TypeName: Вилка; Distributor: Digi-Key; DistributorPartNumber: WM7609CT-ND; LatestRevisionDate: 08.07.13; ManufacturerPartNumber: 53398-0571; Published: 05.06.13; Publisher: Auchinik D; Package: *; Code_IPC: *; Code_JEDEC: *
footprint 53398-0571 (PicoBlade™ 53398-0571)
pins: 1, 2, 3, 4, 5
text: Цепь; Конт.

## 53398-0671
designator XP?  Net_name1: Name1  Net_name2: Name2  Net_name3: Name3  Net_name4: Name4  Net_name5: Name5  Net_name6: Name6
CONN HEADER 6POS 1.25MM VERT SMD; Manufacturer: Molex Inc; Library: Connectors Molex; Group: 9375; RegulationProcent: 10; TypeName: Вилка; Distributor: Digi-Key; DistributorPartNumber: WM7610CT-ND; LatestRevisionDate: 08.07.13; ManufacturerPartNumber: 53398-0671; Published: 05.06.13; Publisher: Auchinik D; Package: *; Code_IPC: *; Code_JEDEC: *
footprint 53398-0671 (PicoBlade™ 53398-0671)
pins: 1, 2, 3, 4, 5, 6
text: Цепь; Конт.

## 53398-0771
designator XP?  Net_name1: Name1  Net_name2: Name2  Net_name3: Name3  Net_name4: Name4  Net_name5: Name5  Net_name6: Name6  Net_name7: Name7
CONN HEADER 7POS 1.25MM VERT SMD; Manufacturer: Molex Inc; Library: Connectors Molex; Group: 9375; RegulationProcent: 10; TypeName: Вилка; Distributor: Digi-Key; DistributorPartNumber: WM7611CT-ND; LatestRevisionDate: 08.07.13; ManufacturerPartNumber: 53398-0771; Published: 05.06.13; Publisher: Auchinik D; Package: *; Code_IPC: *; Code_JEDEC: *
footprint 53398-0771 (PicoBlade™ 53398-0771)
pins: 1, 2, 3, 4, 5, 6, 7
text: Цепь; Конт.

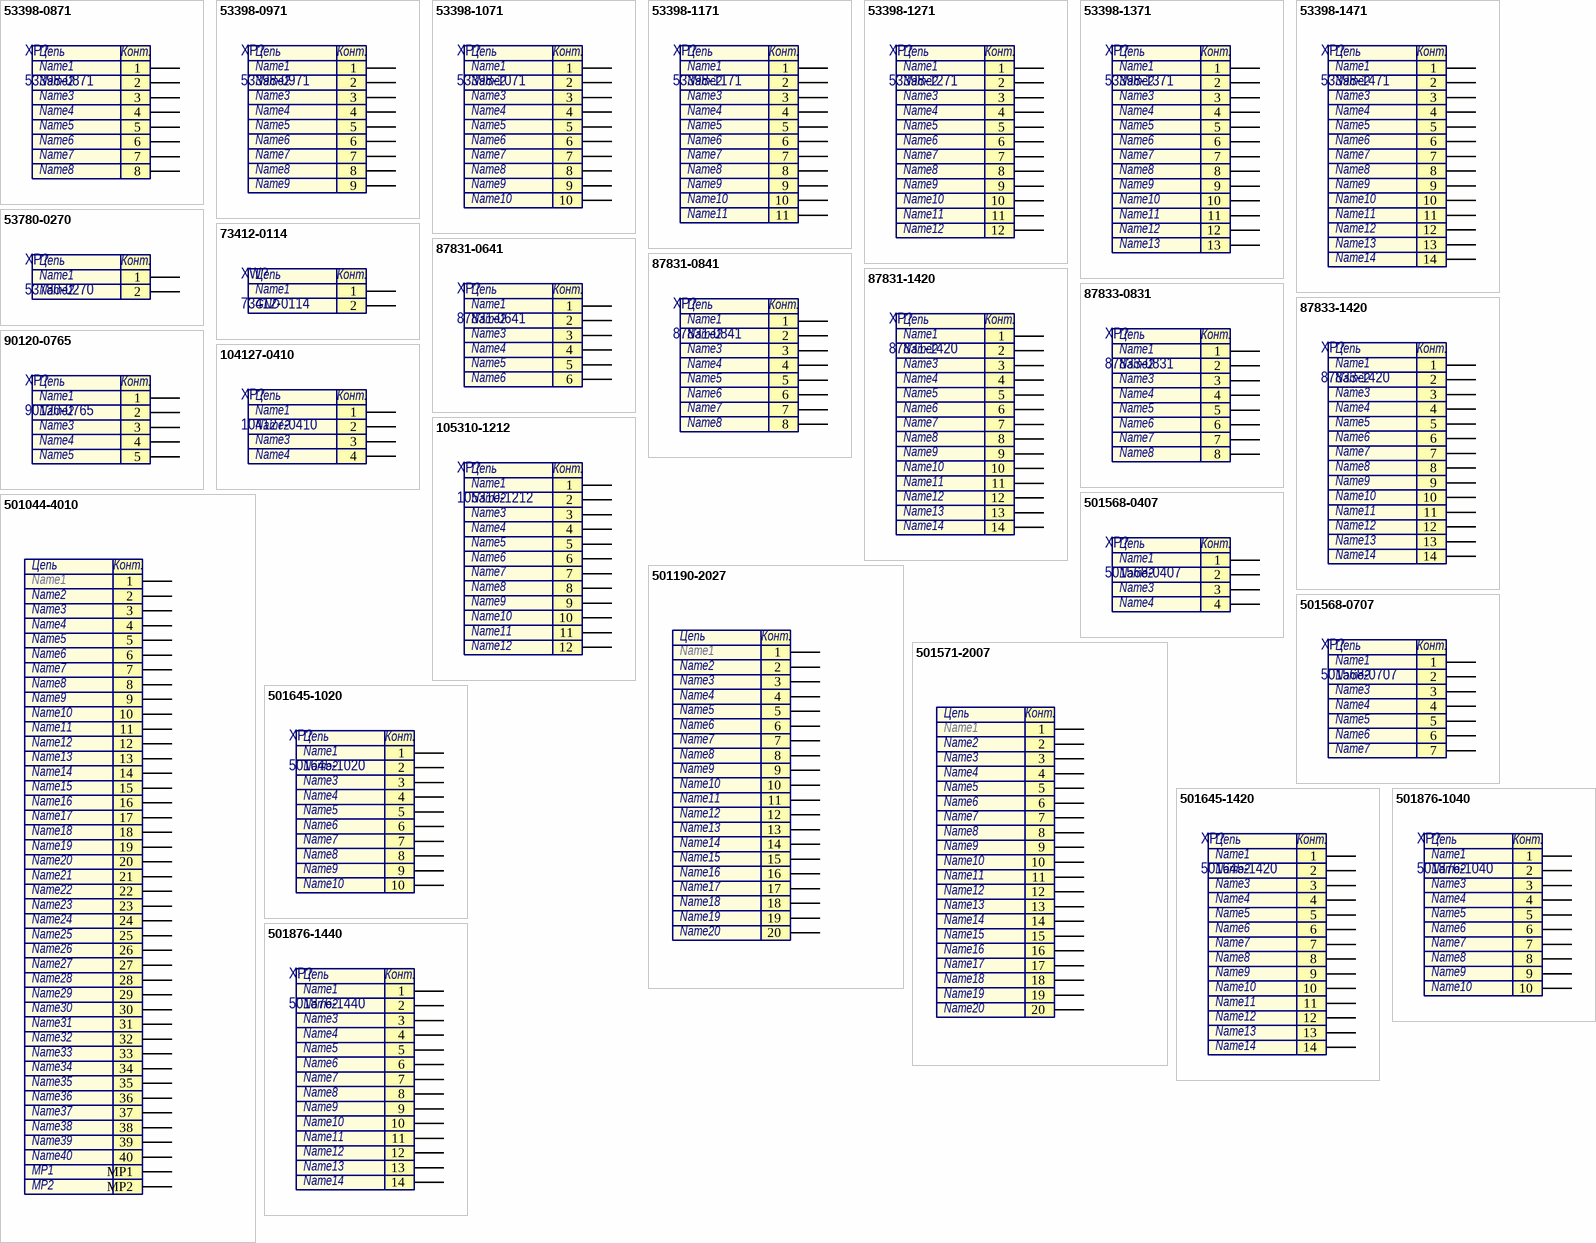
[diagram p2: symbols 53398-0871 to 501876-1440]

## 53398-0871
designator XP?  Net_name1: Name1  Net_name2: Name2  Net_name3: Name3  Net_name4: Name4  Net_name5: Name5  Net_name6: Name6  Net_name7: Name7  Net_name8: Name8
CONN HEADER 8POS 1.25MM VERT SMD; Manufacturer: Molex Inc; Library: Connectors Molex; Group: 9375; RegulationProcent: 10; TypeName: Вилка; Distributor: Digi-Key; DistributorPartNumber: WM7612CT-ND; LatestRevisionDate: 08.07.13; ManufacturerPartNumber: 53398-0871; Published: 05.06.13; Publisher: Auchinik D; Package: *; Code_IPC: *; Code_JEDEC: *
footprint 53398-0871 (PicoBlade™ 53398-0871)
pins: 1, 2, 3, 4, 5, 6, 7, 8
text: Цепь; Конт.

## 53398-0971
designator XP?  Net_name1: Name1  Net_name2: Name2  Net_name3: Name3  Net_name4: Name4  Net_name5: Name5  Net_name6: Name6  Net_name7: Name7  Net_name8: Name8  Net_name9: Name9
CONN HEADER 9POS 1.25MM VERT SMD; Manufacturer: Molex Inc; Library: Connectors Molex; Group: 9375; RegulationProcent: 10; TypeName: Вилка; Distributor: Digi-Key; DistributorPartNumber: WM7613CT-ND; LatestRevisionDate: 08.07.13; ManufacturerPartNumber: 53398-0971; Published: 05.06.13; Publisher: Auchinik D; Package: *; Code_IPC: *; Code_JEDEC: *
footprint 53398-0971 (PicoBlade™ 53398-0971)
pins: 1, 2, 3, 4, 5, 6, 7, 8, 9
text: Цепь; Конт.

## 53398-1071
designator XP?  Net_name1: Name1  Net_name2: Name2  Net_name3: Name3  Net_name4: Name4  Net_name5: Name5  Net_name6: Name6  Net_name7: Name7  Net_name8: Name8  Net_name9: Name9  Net_name10: Name10
CONN HEADER 10POS 1.25MM VERT SMD; Manufacturer: Molex Inc; Library: Connectors Molex; Group: 9375; RegulationProcent: 10; TypeName: Вилка; Distributor: Digi-Key; DistributorPartNumber: WM7614CT-ND; LatestRevisionDate: 08.07.13; ManufacturerPartNumber: 53398-1071; Published: 05.06.13; Publisher: Auchinik D; Package: *; Code_IPC: *; Code_JEDEC: *
footprint 53398-1071 (PicoBlade™ 53398-1071)
pins: 1, 2, 3, 4, 5, 6, 7, 8, 9, 10
text: Цепь; Конт.

## 53398-1171
designator XP?  Net_name1: Name1  Net_name2: Name2  Net_name3: Name3  Net_name4: Name4  Net_name5: Name5  Net_name6: Name6  Net_name7: Name7  Net_name8: Name8  Net_name9: Name9  Net_name10: Name10  Net_name11: Name11
CONN HEADER 11POS 1.25MM VERT SMD; Manufacturer: Molex Inc; Library: Connectors Molex; Group: 9375; RegulationProcent: 10; TypeName: Вилка; Distributor: Digi-Key; DistributorPartNumber: WM7615CT-ND; LatestRevisionDate: 30.11.13; ManufacturerPartNumber: 53398-1171; Published: 30.11.13; Publisher: Auchinik D; Package: *; Code_IPC: *; Code_JEDEC: *
footprint 53398-1171 (PicoBlade™ 53398-1171)
pins: 1, 2, 3, 4, 5, 6, 7, 8, 9, 10, 11
text: Цепь; Конт.

## 53398-1271
designator XP?  Net_name1: Name1  Net_name2: Name2  Net_name3: Name3  Net_name4: Name4  Net_name5: Name5  Net_name6: Name6  Net_name7: Name7  Net_name8: Name8  Net_name9: Name9  Net_name10: Name10  Net_name11: Name11  Net_name12: Name12
CONN HEADER 12POS 1.25MM VERT SMD; Manufacturer: Molex Inc; Library: Connectors Molex; Group: 9375; RegulationProcent: 10; TypeName: Вилка; Distributor: Digi-Key; DistributorPartNumber: WM7616CT-ND; LatestRevisionDate: 08.07.13; ManufacturerPartNumber: 53398-1271; Published: 05.06.13; Publisher: Auchinik D; Package: *; Code_IPC: *; Code_JEDEC: *
footprint 53398-1271 (PicoBlade™ 53398-1271)
pins: 1, 2, 3, 4, 5, 6, 7, 8, 9, 10, 11, 12
text: Цепь; Конт.